# EAGLE library part SN74HC21DR (library NASA_LIB)
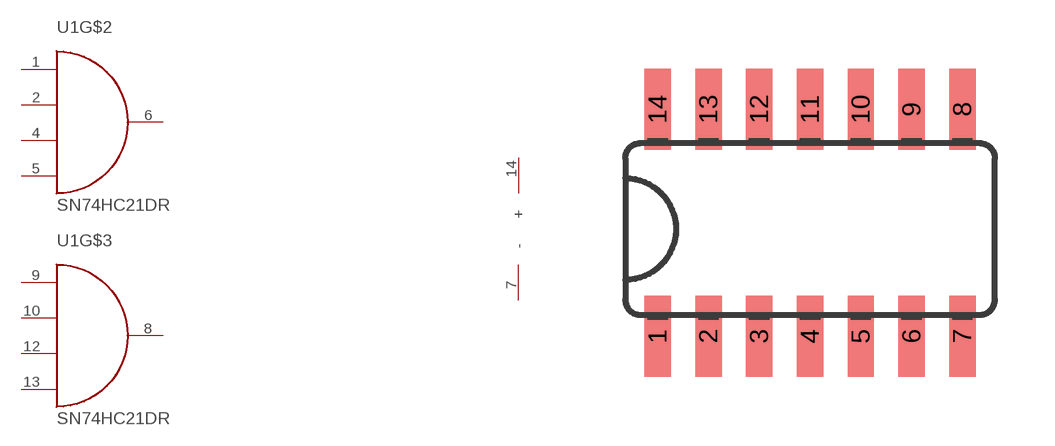
[diagram p48: symbol with the pads of SO14; footprint SO14]

Designator prefix U1; gates G$1=POWER G$2=AND-4 G$3=AND-4

## SN74HC21DR  [SO14]
1  G$2:A
2  G$2:B
4  G$2:C
5  G$2:D
6  G$2:Y
7  G$1:-
8  G$3:Y
9  G$3:A
10  G$3:B
12  G$3:C
13  G$3:D
14  G$1:+

## Footprint SO14 (pad centres in mm)
smd 0.66 x 2.032: 1 -3.175,-2.68; 2 -1.905,-2.68; 3 -0.635,-2.68; 4 0.635,-2.68; 5 1.905,-2.68; 6 3.175,-2.68; 7 4.445,-2.68; 8 4.445,2.997; 9 3.175,2.997; 10 1.905,2.997; 11 0.635,2.997; 12 -0.635,2.997; 13 -1.905,2.997; 14 -3.175,2.997